# Altium schematic symbol library ToradexMainBoard-V0I1.SCHLIB: 303 symbols (part 6 of 14)
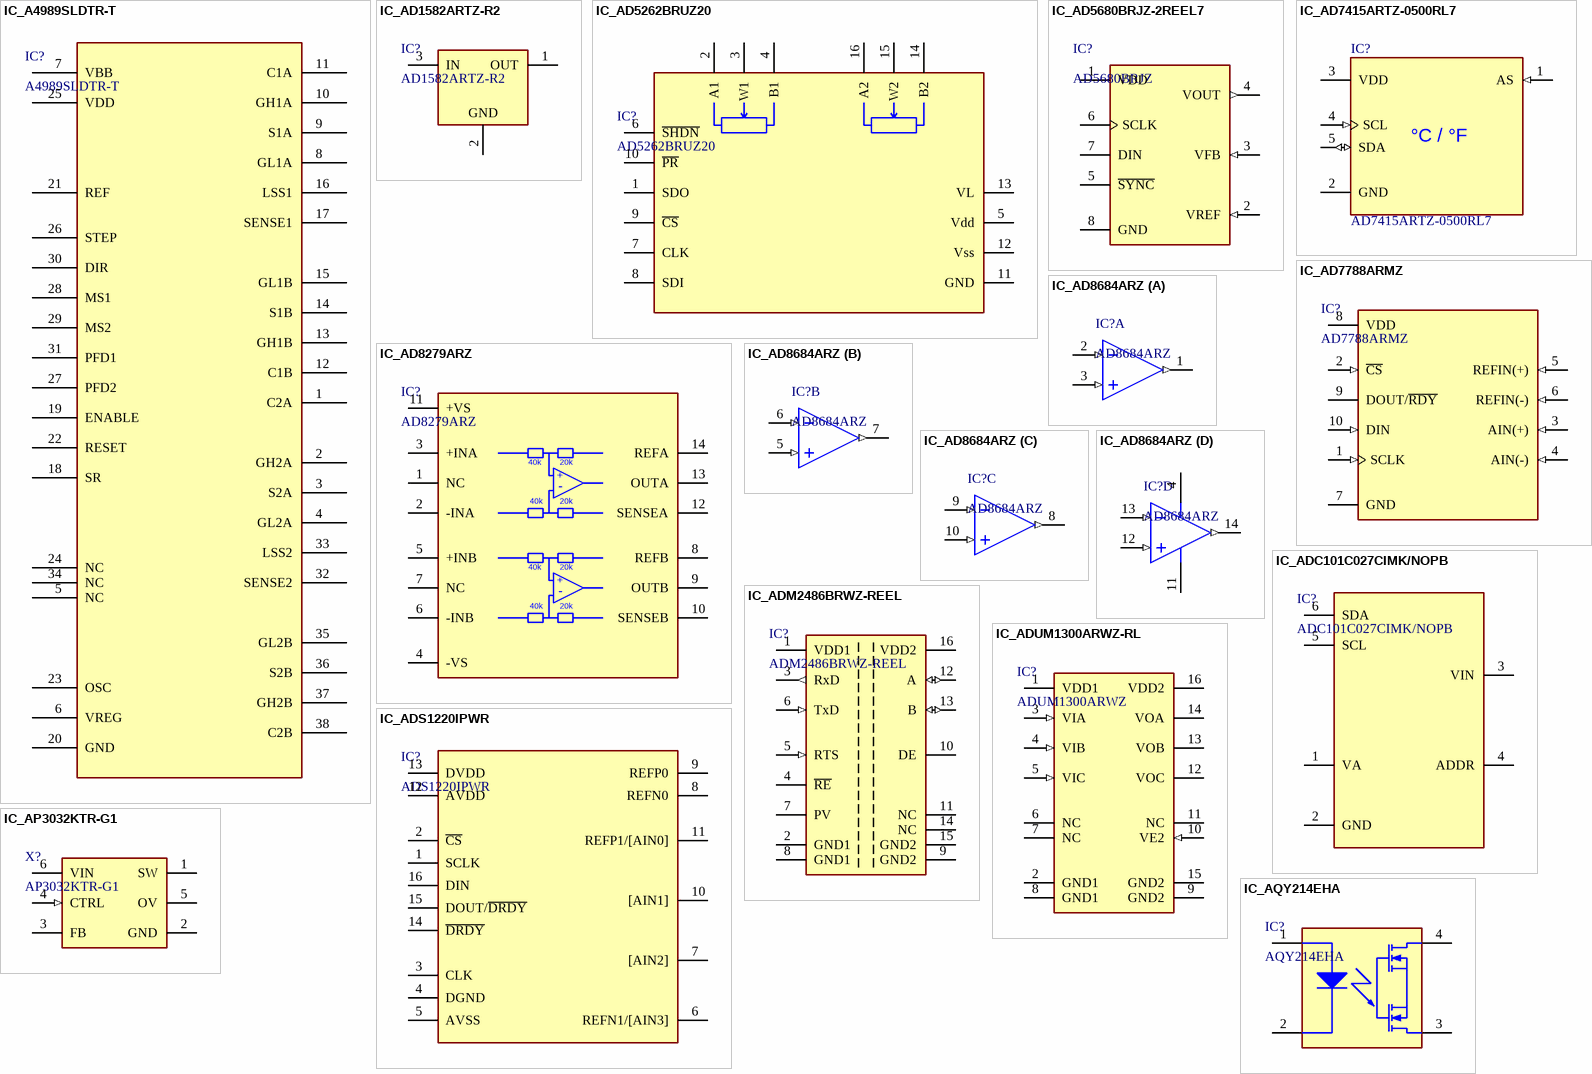
[diagram p20: symbols IC_A4989SLDTR-T to IC_AQY214EHA]

## IC_AD8279ARZ
designator IC?, comment AD8279ARZ
DIFFERENTIAL AMPLIFIER, 1MHZ, 1.4V/ uS, SOIC-14; No. of Amplifiers:2; Input Offset Voltage:500 V; Gain dB Max:2dB; Bandwidth:1MHz; Amplifier Case Style:SOIC; No. of Pins:14; Supply Voltage Range:2V to 36V; Slew Rate:1.4V/ s ;RoHS Compliant: Yes; Manufacturer: Analog Devices; Min Supply Voltage: 2V; Max Dual Supply Voltage: 18V; Number of Channels: 2; Common Mode Rejection Ratio: 80dB; Slew Rate: 1.4V/µs; Input Offset Voltage (Vos): 50uV; Operating Supply Current: 200uA; Output Current per Channel: 15mA; Input Resistance: 120kR; Max Power Dissipation: 500uW; Settling Time: 9us; Max Supply Current: 400uA; Supplier 1: Mouser; Manufacturer Part Number: AD8279ARZ; RoHS: Yes; Category: Amplifiers - Op Amps, Buffer, Instrumentation; Stock 1: 431; Mount: Surface Mount; Case/Package: SOIC; Number of Pins: 14; Contact Plating: Tin,Matte; Min Operating Temperature: -40°C; Max Operating Temperature: 85°C; Max Supply Voltage: 36V; Min Dual Supply Voltage: 2V; Packaging: Rail/Tube; Package Quantity: 56; Number of Circuits: 2; Gain Bandwidth Product: 1MHz; Number of Elements: 2; Series: -; Amplifier Type: DIFFERENTIAL; Bandwidth: 1MHz; Number of Amplifiers: 2; Length: 8.75mm; Width: 4mm; Height: 1.5mm; Lead Free: Contains Lead; RoHS Compliant: Yes; REACH SVHC: No SVHC; ComponentLink1URL: https://datasheet.ciiva.com/23589/1610844-23589650.pdf?src-supplier=Newark; ComponentLink1Description: https://datasheet.ciiva.com/23589/1610844-23589650.pdf?src-supplier=Newark; ComponentLink2URL: https://datasheet.ciiva.com/1485/608894-1485572.pdf?src-supplier=Element14; ComponentLink2Description: https://datasheet.ciiva.com/1485/608894-1485572.pdf?src-supplier=Element14; ComponentLink3URL: https://datasheet.ciiva.com/26855/ad8279arz-26855180.pdf?src-supplier=IIIC; ComponentLink3Description: https://datasheet.ciiva.com/26855/ad8279arz-26855180.pdf?src-supplier=IIIC; ComponentLink4URL: https://datasheet.ciiva.com/2977/ad8278-8279-2977138.pdf?src-supplier=Avnet; ComponentLink4Description: https://datasheet.ciiva.com/2977/ad8278-8279-2977138.pdf?src-supplier=Avnet; ComponentLink5URL: https://datasheet.ciiva.com/1492/608894-1492916.pdf?src-supplier=Farnell; ComponentLink5Description: https://datasheet.ciiva.com/1492/608894-1492916.pdf?src-supplier=Farnell; ComponentLink6URL: https://datasheet.ciiva.com/1135/1789993-1135287.pdf?src-supplier=Element14; ComponentLink6Description: https://datasheet.ciiva.com/1135/1789993-1135287.pdf?src-supplier=Element14; ComponentLink7URL: https://datasheet.ciiva.com/1794/ad8278-8279-1794669.pdf?src-supplier=Digi-Key; ComponentLink7Description: https://datasheet.ciiva.com/1794/ad8278-8279-1794669.pdf?src-supplier=Digi-Key; ComponentLink8URL: https://datasheet.ciiva.com/48705/001249126-da-01-en-ic-amp-diff-lp-ad8279arz-soic-14-adi-48705973.pdf?src-supplier=Conrad; ComponentLink8Description: https://datasheet.ciiva.com/48705/001249126-da-01-en-ic-amp-diff-lp-ad8279arz-soic-14-adi-48705973.pdf?src-supplier=Conrad; Supplier Part Number 1: 584-AD8279ARZ
footprint AD8279_SOIC14 (SOIC, 14-Leads, Body 8.75x4mm, Pitch 1.27mm, IPC Low Density)
pins: 1 NC "Positive Terminal of Voltage-Doubler Charge-Pump Capacitor", 2 -INA "+5.5 V Generated by the Charge Pump", 3 +INA "Negative Terminal of Voltage-Doubler Charge-Pump Capacitor", 4 -VS "Positive Terminal of Inverting Charge-Pump Capacitor", 5 +INB "Negative Terminal of Inverting Charge-Pump Capacitor", 6 -INB "-5.5 V Generated by the Charge Pump", 7 NC "RS-232 Transmitter Outputs", 8 REFB "RS-232 Receiver Inputs", 9 OUTB "TTL/CMOS Receiver Outputs", 10 SENSEB "TTL/CMOS Transmitter Inputs", 11 +VS "TTL/CMOS Transmitter Inputs", 12 SENSEA "TTL/CMOS Receiver Outputs", 13 OUTA "RS-232 Receiver Inputs", 14 REFA "RS-232 Transmitter Outputs"
text: 40k; 20k; +

## IC_AD8684ARZ
designator IC?, comment AD8684ARZ
ANALOG DEVICES         AD8684ARZ            Operational Amplifier, QUAD, 3.5 MHz, 4 Amplifier, 9 V/s,  4.5V to  18V, SOIC, 14 Pins; Generic Part Number: AD8684; V Span Max: 36V; Small Signal Bandwidth: 3.5MHz; Input Offset Voltage: 350uV; Iq/Amp: 210uA; Input Bias Current: 6pA; Slew Rate: 9V/us; V Span Min: 9V; Amplifiers Per Package: 4; Voltage Gain: 86.02dB; Common Mode Rejection Ratio: 90dB; Input Offset Voltage (Vos): 1mV; Operating Supply Current: 1mA; Output Current per Channel: 12mA; Input Voltage Noise Density: 36nV/sqrt Hz; Power Supply Rejection Ratio (PSRR): 114dB; Quiescent Current: 250uA; Settling Time: 1.6us; ComponentLink2URL: http://www.analog.com/static/imported-files/data_sheets/AD8682_AD8684.pdf; Mounting Technology: Surface Mount; ComponentLink2Description: Datasheet; ComponentLink1Description: Manufacturer URL; PackageReference: R-14; PartNumber: AD8684ARZ; PackageDescription: 14-Pin Standard Small Outline Package, Body 8.65 x 3.9 mm, Pitch 1.27 mm; DatasheetVersion: Rev. B; PackageVersion: 060606-A; ComponentLink1URL: http://www.analog.com/en/index.html; Manufacturer: Analog Devices; ComponentLink3Description: Package Specification; ComponentLink3URL: http://www.analog.com/static/imported-files/packages/PKG_PDF/SOIC_Narrow%20(R)/R_14.pdf; Code_JEDEC: MS-012-AB; Supplier 1: Mouser; Manufacturer Part Number: AD8684ARZ; RoHS: Yes; Category: Amplifiers - Op Amps, Buffer, Instrumentation; Stock 1: 137; Pricing 1: 1=6,56000, 10=5,93000, 50=5,65000, 100=4,90000, 1000=3,89000, 10000=3,89000, 1=5,56000, 10=5,02000, 25=4,79000, 100=4,15000, 250=3,96000, 500=3,62000, 1000=3,29000 (USD); Case/Package: R; Number of Pins: 14; Contact Plating: Tin,Matte; Min Operating Temperature: -40°C; Max Operating Temperature: 85°C; Packaging: Rail/Tube; Max Supply Voltage: 36V; Min Supply Voltage: 9V; Unity Gain Bandwidth Product: 3.5MHz; Min Dual Supply Voltage: 4.5V; Max Dual Supply Voltage: 18V; Package Quantity: 56; Number of Circuits: 4; Gain Bandwidth Product: 3.5MHz; Number of Channels: 4; Number of Amplifiers: 4; Number of Elements: 4; Series: -; Technology: JFET; Dual Supply Voltage: 9V; Bandwidth: 3.5MHz; Length: 8.75mm; Width: 4mm; Height: 1.5mm; Lead Free: Contains Lead; RoHS Compliant: Yes; REACH SVHC: No SVHC; ComponentLink4URL: https://datasheet.ciiva.com/23654/ad8682-8684-23654329.pdf?src-supplier=Newark; ComponentLink4Description: https://datasheet.ciiva.com/23654/ad8682-8684-23654329.pdf?src-supplier=Newark; ComponentLink5URL: https://datasheet.ciiva.com/1809/ad8682-ad8684-1809660.pdf?src-supplier=Digi-Key; ComponentLink5Description: https://datasheet.ciiva.com/1809/ad8682-ad8684-1809660.pdf?src-supplier=Digi-Key; ComponentLink6URL: https://datasheet.ciiva.com/1487/1610681-1487325.pdf?src-supplier=Element14; ComponentLink6Description: https://datasheet.ciiva.com/1487/1610681-1487325.pdf?src-supplier=Element14; ComponentLink7URL: https://datasheet.ciiva.com/11712/ad8682-ad8684-11712062.pdf?src-supplier=Avnet; ComponentLink7Description: https://datasheet.ciiva.com/11712/ad8682-ad8684-11712062.pdf?src-supplier=Avnet; ComponentLink8URL: https://datasheet.ciiva.com/17569/ad8682-ad8684-17569343.pdf?src-supplier=Avnet+Europe; ComponentLink8Description: https://datasheet.ciiva.com/17569/ad8682-ad8684-17569343.pdf?src-supplier=Avnet+Europe; Supplier Part Number 1: 584-AD8684ARZ
footprint AD8684ARZ_SOIC14 (SOIC, 14-Leads, Body 8.75x4mm, Pitch 1.27mm, IPC Low Density)
part A pins: 1 OUT A (out), 2 -IN A (in), 3 +IN A (in)
part B pins: 5 +IN B (in), 6 -IN B (in), 7 OUT B (out)
part C pins: 8 OUT C (out), 9 -IN C (in), 10 +IN C (in)
part D pins: 4 OUT D, 11 OUT D, 12 +IN D (in), 13 -IN D (in), 14 OUT D (out)

## IC_ADC101C027CIMK/NOPB
designator IC?, comment ADC101C027CIMK/NOPB
Single ADC SAR 188.9ksps 10-bit Serial 6-Pin TSOT-23 T/R; Manufacturer: TI National Semiconductor; Sampling Rate: 188.9KS/s; Resolution: 10b; Polarity: Unipolar; Number of Analog Inputs: 1; Interface: I2C; Operating Supply Voltage: 5V; Max Supply Voltage: 5.5V; Min Supply Voltage: 2.7V; Max Power Dissipation: 5.8mW; Number of Bits: 10; Integral Nonlinearity (INL): 0.7LSB; Signal to Noise Ratio (SNR): 61.8dB; Nominal Supply Current: 740uA; Full Scale Error: 1LSB; Supplier 1: Mouser; Manufacturer Part Number: ADC101C027CIMK/NOPB; RoHS: Yes; Category: Analog to Digital Converters (ADCs); Stock 1: 1689; Mount: Surface Mount; Case/Package: TSOT; Number of Pins: 6; Contact Plating: Tin; Min Operating Temperature: -40°C; Max Operating Temperature: 105°C; Packaging: Tape and Reel; Package Quantity: 1000; Number of Channels: 1; Number of Inputs: 1; Number of A/D Converters: 1; Number of Converters: 1; Number of Elements: 1; Supply Type: Single; Conversion Rate: 188.9KS/s; Differential Nonlinearity: 0.7LSB; Length: 2.97mm; Width: 1.65mm; Height: 0.87mm; Radiation Hardening: No; REACH SVHC: No SVHC; Lead Free: Lead Free; ComponentLink1URL: https://datasheet.ciiva.com/15147/getdatasheetpartid-158992-15147832.pdf?src-supplier=Verical; ComponentLink1Description: https://datasheet.ciiva.com/15147/getdatasheetpartid-158992-15147832.pdf?src-supplier=Verical; ComponentLink2URL: https://datasheet.ciiva.com/41460/001186638-da-01-en-ic-adc-adc101c027cimk-nopb-tsot-23-6-tid-41460910.pdf?src-supplier=Conrad; ComponentLink2Description: https://datasheet.ciiva.com/41460/001186638-da-01-en-ic-adc-adc101c027cimk-nopb-tsot-23-6-tid-41460910.pdf?src-supplier=Conrad; ComponentLink3URL: https://datasheet.ciiva.com/1501/91285-1501814.pdf?src-supplier=Farnell; ComponentLink3Description: https://datasheet.ciiva.com/1501/91285-1501814.pdf?src-supplier=Farnell; ComponentLink4URL: https://datasheet.ciiva.com/7988/1853638-7988909.pdf?src-supplier=Element14; ComponentLink4Description: https://datasheet.ciiva.com/7988/1853638-7988909.pdf?src-supplier=Element14; ComponentLink5URL: https://datasheet.ciiva.com/14259/adc101c027-14259487.pdf?src-supplier=Avnet; ComponentLink5Description: https://datasheet.ciiva.com/14259/adc101c027-14259487.pdf?src-supplier=Avnet; Supplier Part Number 1: 926-AD101C027CIMKNPB
footprint ADC101C027_SOT23
pins: 1 VA (power) "Power Supply Input: 2.7V to 26.4V", 2 GND (power) "Power Supply Input: 2.7V to 26.4V", 3 VIN (power) "Power Supply Input: 2.7V to 26.4V", 4 ADDR (power) "Power Supply Input: 2.7V to 26.4V", 5 SCL (power) "Power Supply Input: 2.7V to 26.4V", 6 SDA (power) "Power Supply Input: 2.7V to 26.4V"

## IC_ADM2486BRWZ-REEL
designator IC?, comment ADM2486BRWZ-REEL
Single Transmitter/Receiver RS-485 16-Pin SOIC W T/R; Manufacturer: Analog Devices; Number of Transmitters: 1; Logic Function: Transceiver; Number of Channels: 3; Data Rate: 20Mbps; Propagation Delay: 55ns; Max Supply Voltage: 5.5V; Min Supply Voltage: 2.7V; Nominal Supply Current: 3mA; Channel Type: Bidirectional; Isolated Power: No; Pulse Width Distortion (PWD): 5ns; Isolation Voltage: 2.5kV; Operating Supply Voltage: 5V; Simplex/Duplex: Half Duplex; Supplier 1: Mouser; Manufacturer Part Number: ADM2486BRWZ-REEL; RoHS: Yes; Category: Interface ICs; Mount: Surface Mount; Case/Package: SOIC; Number of Pins: 16; Contact Plating: Tin,Matte; Min Operating Temperature: -40°C; Max Operating Temperature: 85°C; Number of Receivers: 1; Packaging: Tape and Reel; Package Quantity: 1000; Operating Supply Current: 3mA; Number of Transceivers: 1; ESD Protection: No; Max Output Current: 3mA; Series: iCoupler®; Supply Current: 3mA; Lead Free: Contains Lead; RoHS Compliant: Yes; ComponentLink1URL: https://datasheet.ciiva.com/26832/adm2486brwz-reel-26832199.pdf?src-supplier=IIIC; ComponentLink1Description: https://datasheet.ciiva.com/26832/adm2486brwz-reel-26832199.pdf?src-supplier=IIIC; ComponentLink2URL: https://datasheet.ciiva.com/16641/adm2486-16641103.pdf?src-supplier=Avnet+Europe; ComponentLink2Description: https://datasheet.ciiva.com/16641/adm2486-16641103.pdf?src-supplier=Avnet+Europe; ComponentLink3URL: https://datasheet.ciiva.com/11301/adm2486-11301657.pdf?src-supplier=Avnet; ComponentLink3Description: https://datasheet.ciiva.com/11301/adm2486-11301657.pdf?src-supplier=Avnet; Supplier Part Number 1: 584-ADM2486BRWZ-R
footprint ADM2486_SOIC16W (SOIC, 16-Leads, Body 10.3x7.5mm, Pitch 1.27mm, IPC Low Density)
pins: 1 VDD1 (power) "Supply Voltage for Isolator Side 1.", 2 GND1 (power) "Ground 1. Ground reference for Isolator Side 1.", 3 RxD (out) "Logic Input A.", 4 ~{RE} "Logic Input B.", 5 RTS (in) "Logic Input C.", 6 TxD (in) "No Connect.", 7 PV "No Connect.", 8 GND1 (power) "Ground 1. Ground reference for Isolator Side 1.", 9 GND2 (power) "Ground 2. Ground reference for Isolator Side 2.", 10 DE "Output Enable 2. Active high logic input. VOA, VOB, and VOC outputs are enabled when VE2 is high or disconnected. VOA, VOB, and VOC outputs are disabled when VE2 is low. In noisy environments, connecting VE2 to an external (See Datasheet)", 11 NC "No Connect.", 12 A (io) "Logic Output C.", 13 B (io) "Logic Output B.", 14 NC (hiz) "Logic Output A.", 15 GND2 (power) "Ground 2. Ground reference for Isolator Side 2.", 16 VDD2 (power) "Supply Voltage for Isolator Side 2."

## IC_ADS1220IPWR
designator IC?, comment ADS1220IPWR
Single ADC Delta-Sigma 2ksps 24-bit Serial (5-Wire, 4-Wire, 3-Wire, SPI) 16-Pin TSSOP T/R; Manufacturer: Texas Instruments; Max Power Dissipation: 1.4mW; Number of Channels: 1; Max Supply Voltage: 5.5V; Min Supply Voltage: 2.3V; Number of Inputs: 4; Min Dual Supply Voltage: 2.75V; Power Dissipation: 2.1mW; Number of Bits: 24; Sampling Rate: 2KS/s; Resolution: 24b; Polarity: Bipolar,Unipolar; Supply Type: Dual,Analog,Digital; Operating Supply Voltage: 3.3V; Supplier 1: Digi-Key; Manufacturer Part Number: ADS1220IPWR; RoHS: Yes; Category: Analog to Digital Converters (ADCs); Stock 1: 1369; Pricing 1: 1=8,27000, 10=7,47300, 25=7,12600, 100=5,90920, 250=5,38780, 500=5,04020, 1000=4,51880 (USD); Mount: Surface Mount; Case/Package: TSSOP; Number of Pins: 16; Contact Plating: Gold; Min Operating Temperature: -40°C; Max Operating Temperature: 125°C; Packaging: Tape and Reel; Interface: SPI; Package Quantity: 2500; Max Dual Supply Voltage: 2.3V; Number of A/D Converters: 1; Number of Elements: 1; Number of Converters: 1; Number of Analog Inputs: 4; Radiation Hardening: No; Lead Free: Lead Free; ComponentLink1URL: https://datasheet.ciiva.com/29897/ads1220-29897475.pdf?src-supplier=Avnet; ComponentLink1Description: https://datasheet.ciiva.com/29897/ads1220-29897475.pdf?src-supplier=Avnet; ComponentLink2URL: https://datasheet.ciiva.com/24012/sbas501a-267197-24012885.pdf?src-supplier=Mouser; ComponentLink2Description: https://datasheet.ciiva.com/24012/sbas501a-267197-24012885.pdf?src-supplier=Mouser; ComponentLink3URL: https://datasheet.ciiva.com/26933/getdatasheetpartid-780540-26933509.pdf?src-supplier=Verical; ComponentLink3Description: https://datasheet.ciiva.com/26933/getdatasheetpartid-780540-26933509.pdf?src-supplier=Verical; Supplier Part Number 1: 296-39851-1-ND
footprint ADS1220-TSSOP16 (TSSOP16)
pins: 1 SCLK, 2 ~{CS}, 3 CLK, 4 DGND, 5 AVSS, 6 REFN1/[AIN3], 7 [AIN2], 8 REFN0, 9 REFP0, 10 [AIN1], 11 REFP1/[AIN0], 12 AVDD, 13 DVDD, 14 ~{DRDY}, 15 DOUT/~{DRDY}, 16 DIN

## IC_ADUM1300ARWZ-RL
designator IC?, comment ADUM1300ARWZ
IC,Digital Coupler,HYBRID,SOP,16PIN,PLASTIC; Manufacturer: Analog Devices; Manufacturer Part Number: ADUM1300ARWZ-RL; Propagation Delay: 100ns; Min Supply Voltage: 2.7V; Max Supply Voltage: 5.5V; Nominal Supply Current: 8.2mA; Operating Supply Voltage: 5V; Number of Channels: 3; Rise Time: 2.5ns; Data Rate: 90Mbps; Channel Type: Unidirectional; Max Input Current: 2.5mA; Output Current: 30mA; Isolated Power: No; Pulse Width Distortion (PWD): 40ns; Supplier 1: Mouser; RoHS: Yes; Category: Interface ICs; Stock 1: 3064; Case/Package: SOIC; Number of Pins: 16; Min Operating Temperature: -40°C; Max Operating Temperature: 125°C; Packaging: Tape and Reel; Package Quantity: 1000; Number of Input Lines: 3; Operating Supply Current: 8.2mA; Turn-On Delay Time: 100ns; Type: General Purpose; Length: 10.5mm; Width: 7.6mm; Depth: 2.65mm; Lead Free: Contains Lead; ComponentLink1URL: https://datasheet.ciiva.com/25620/0900766b810adbfe-25620793.pdf?src-supplier=RSComponents; ComponentLink1Description: https://datasheet.ciiva.com/25620/0900766b810adbfe-25620793.pdf?src-supplier=RSComponents; ComponentLink2URL: https://datasheet.ciiva.com/26911/adum1300arwz-rl-26911337.pdf?src-supplier=IIIC; ComponentLink2Description: https://datasheet.ciiva.com/26911/adum1300arwz-rl-26911337.pdf?src-supplier=IIIC; ComponentLink3URL: https://datasheet.ciiva.com/34302/1805151-34302757.pdf?src-supplier=Jameco; ComponentLink3Description: https://datasheet.ciiva.com/34302/1805151-34302757.pdf?src-supplier=Jameco; ComponentLink4URL: https://datasheet.ciiva.com/2081/adum1300-1301-2081801.pdf?src-supplier=Digi-Key; ComponentLink4Description: https://datasheet.ciiva.com/2081/adum1300-1301-2081801.pdf?src-supplier=Digi-Key; ComponentLink5URL: https://datasheet.ciiva.com/2081/adum1300-1301-2081802.pdf?src-supplier=Digi-Key; ComponentLink5Description: https://datasheet.ciiva.com/2081/adum1300-1301-2081802.pdf?src-supplier=Digi-Key; ComponentLink6URL: https://datasheet.ciiva.com/2081/adum1300-1301-2081803.pdf?src-supplier=Digi-Key; ComponentLink6Description: https://datasheet.ciiva.com/2081/adum1300-1301-2081803.pdf?src-supplier=Digi-Key; ComponentLink7URL: https://datasheet.ciiva.com/8085/adum1300-1301-8085039.pdf?src-supplier=Avnet; ComponentLink7Description: https://datasheet.ciiva.com/8085/adum1300-1301-8085039.pdf?src-supplier=Avnet; Supplier Part Number 1: 584-ADUM1300ARWZ-R
footprint ADUM1300_SOIC16W (SOIC, 16-Leads, Body 10.3x7.5mm, Pitch 1.27mm, IPC Low Density)
pins: 1 VDD1 (power) "Supply Voltage for Isolator Side 1.", 2 GND1 (power) "Ground 1. Ground reference for Isolator Side 1.", 3 VIA (in) "Logic Input A.", 4 VIB (in) "Logic Input B.", 5 VIC (in) "Logic Input C.", 6 NC "No Connect.", 7 NC "No Connect.", 8 GND1 (power) "Ground 1. Ground reference for Isolator Side 1.", 9 GND2 (power) "Ground 2. Ground reference for Isolator Side 2.", 10 VE2 (in) "Output Enable 2. Active high logic input. VOA, VOB, and VOC outputs are enabled when VE2 is high or disconnected. VOA, VOB, and VOC outputs are disabled when VE2 is low. In noisy environments, connecting VE2 to an external (See Datasheet)", 11 NC "No Connect.", 12 VOC (hiz) "Logic Output C.", 13 VOB (hiz) "Logic Output B.", 14 VOA (hiz) "Logic Output A.", 15 GND2 (power) "Ground 2. Ground reference for Isolator Side 2.", 16 VDD2 (power) "Supply Voltage for Isolator Side 2."

## IC_AP3032KTR-G1
designator X?, comment AP3032KTR-G1
AP3032 Series 9 V 1.3 MHz Surface Mount White LED Step-Up Converter - SOT-23-6; Manufacturer: Diodes; Number of Outputs: 1; Frequency: 1MHz; Max Supply Voltage: 9V; Output Current per Channel: 1.4A; Min Input Voltage: 2.7V; Max Output Voltage: 38V; Switching Frequency: 750kHz; Topology: Boost; Dimming: PWM; Supplier 1: Farnell; Manufacturer Part Number: AP3032KTR-G1; RoHS: Yes; Category: LED Drivers; Pricing 1: 5=0,64300, 10=0,43600, 100=0,22800, 500=0,18400 (EUR); Mount: Surface Mount; Case/Package: SOT-23-6; Number of Pins: 6; Weight: 0.000529oz; Min Operating Temperature: -40°C; Max Operating Temperature: 85°C; Packaging: Tape and Reel; Package Quantity: 3000; Max Input Voltage: 9V; Number of Channels: 1; Lead Free: Lead Free; ComponentLink1URL: https://datasheet.ciiva.com/29602/ap3032-29602682.pdf?src-supplier=Digi-Key; ComponentLink1Description: https://datasheet.ciiva.com/29602/ap3032-29602682.pdf?src-supplier=Digi-Key; ComponentLink2URL: https://datasheet.ciiva.com/29603/ap3032-29603100.pdf?src-supplier=Digi-Key; ComponentLink2Description: https://datasheet.ciiva.com/29603/ap3032-29603100.pdf?src-supplier=Digi-Key; ComponentLink3URL: https://datasheet.ciiva.com/29603/ap3032-29603101.pdf?src-supplier=Digi-Key; ComponentLink3Description: https://datasheet.ciiva.com/29603/ap3032-29603101.pdf?src-supplier=Digi-Key; Supplier Part Number 1: 3482892
footprint IC_AP3032-SOT26-6
pins: 1 SW, 2 GND (power), 3 FB, 4 CTRL (in), 5 OV, 6 VIN (power)

## IC_AQY214EHA
designator IC?, comment AQY214EHA
RELAY OPTO SPST-NO 120MA 400V; Manufacturer: Panasonic; Max Input Current: 50mA; On-State Resistance: 35R; Throw Configuration: SPST; Input Type: DC; Isolation Voltage-Max: 5kV; Contact Resistance: 26R; Forward Current: 1.2mA; Rise Time: 500us; Supplier 1: Farnell; Manufacturer Part Number: AQY214EHA; RoHS: Yes; Category: Solid State Relays; Stock 1: 5; Pricing 1: 1=2,39000, 10=2,25000, 25=2,00000, 50=1,90000, 100=1,80000 (EUR); Case/Package: SMD/SMT; Number of Pins: 4; Min Operating Temperature: -40°C; Max Operating Temperature: 85°C; Max Output Current: 120mA; Max Output Voltage: 400V; Package Quantity: 100; Output Voltage: 400V; Packaging: Rail/Tube; Load Current: 120mA; Termination: Gull Wing; Input Current: 50mA; Relay Type: Relay; Series: PhotoMOS™ AQY; On-state Resistance-Max: 35R; Output Current: 120mA; Isolation Voltage: 5kV; Test Voltage: 5kV; Length: 6.4mm; Width: 4.78mm; Height: 2.9mm; Radiation Hardening: No; Lead Free: Lead Free; RoHS Compliant: Yes; REACH SVHC: No SVHC; ComponentLink1URL: https://datasheet.ciiva.com/24427/11ds-x615-en-aqy21eh-24427498.pdf?src-supplier=Onlinecomponents.com; ComponentLink1Description: https://datasheet.ciiva.com/24427/11ds-x615-en-aqy21eh-24427498.pdf?src-supplier=Onlinecomponents.com; ComponentLink2URL: https://datasheet.ciiva.com/48510/1159euen-1111-s-48510894.pdf?src-supplier=Distrelec; ComponentLink2Description: https://datasheet.ciiva.com/48510/1159euen-1111-s-48510894.pdf?src-supplier=Distrelec; Supplier Part Number 1: 2095724
footprint AQY214_SMD (DIP(SMT), 4-Leads, Body 6.4x4.78mm, Pitch 2.54mm)
pins: 1, 2, 3, 4

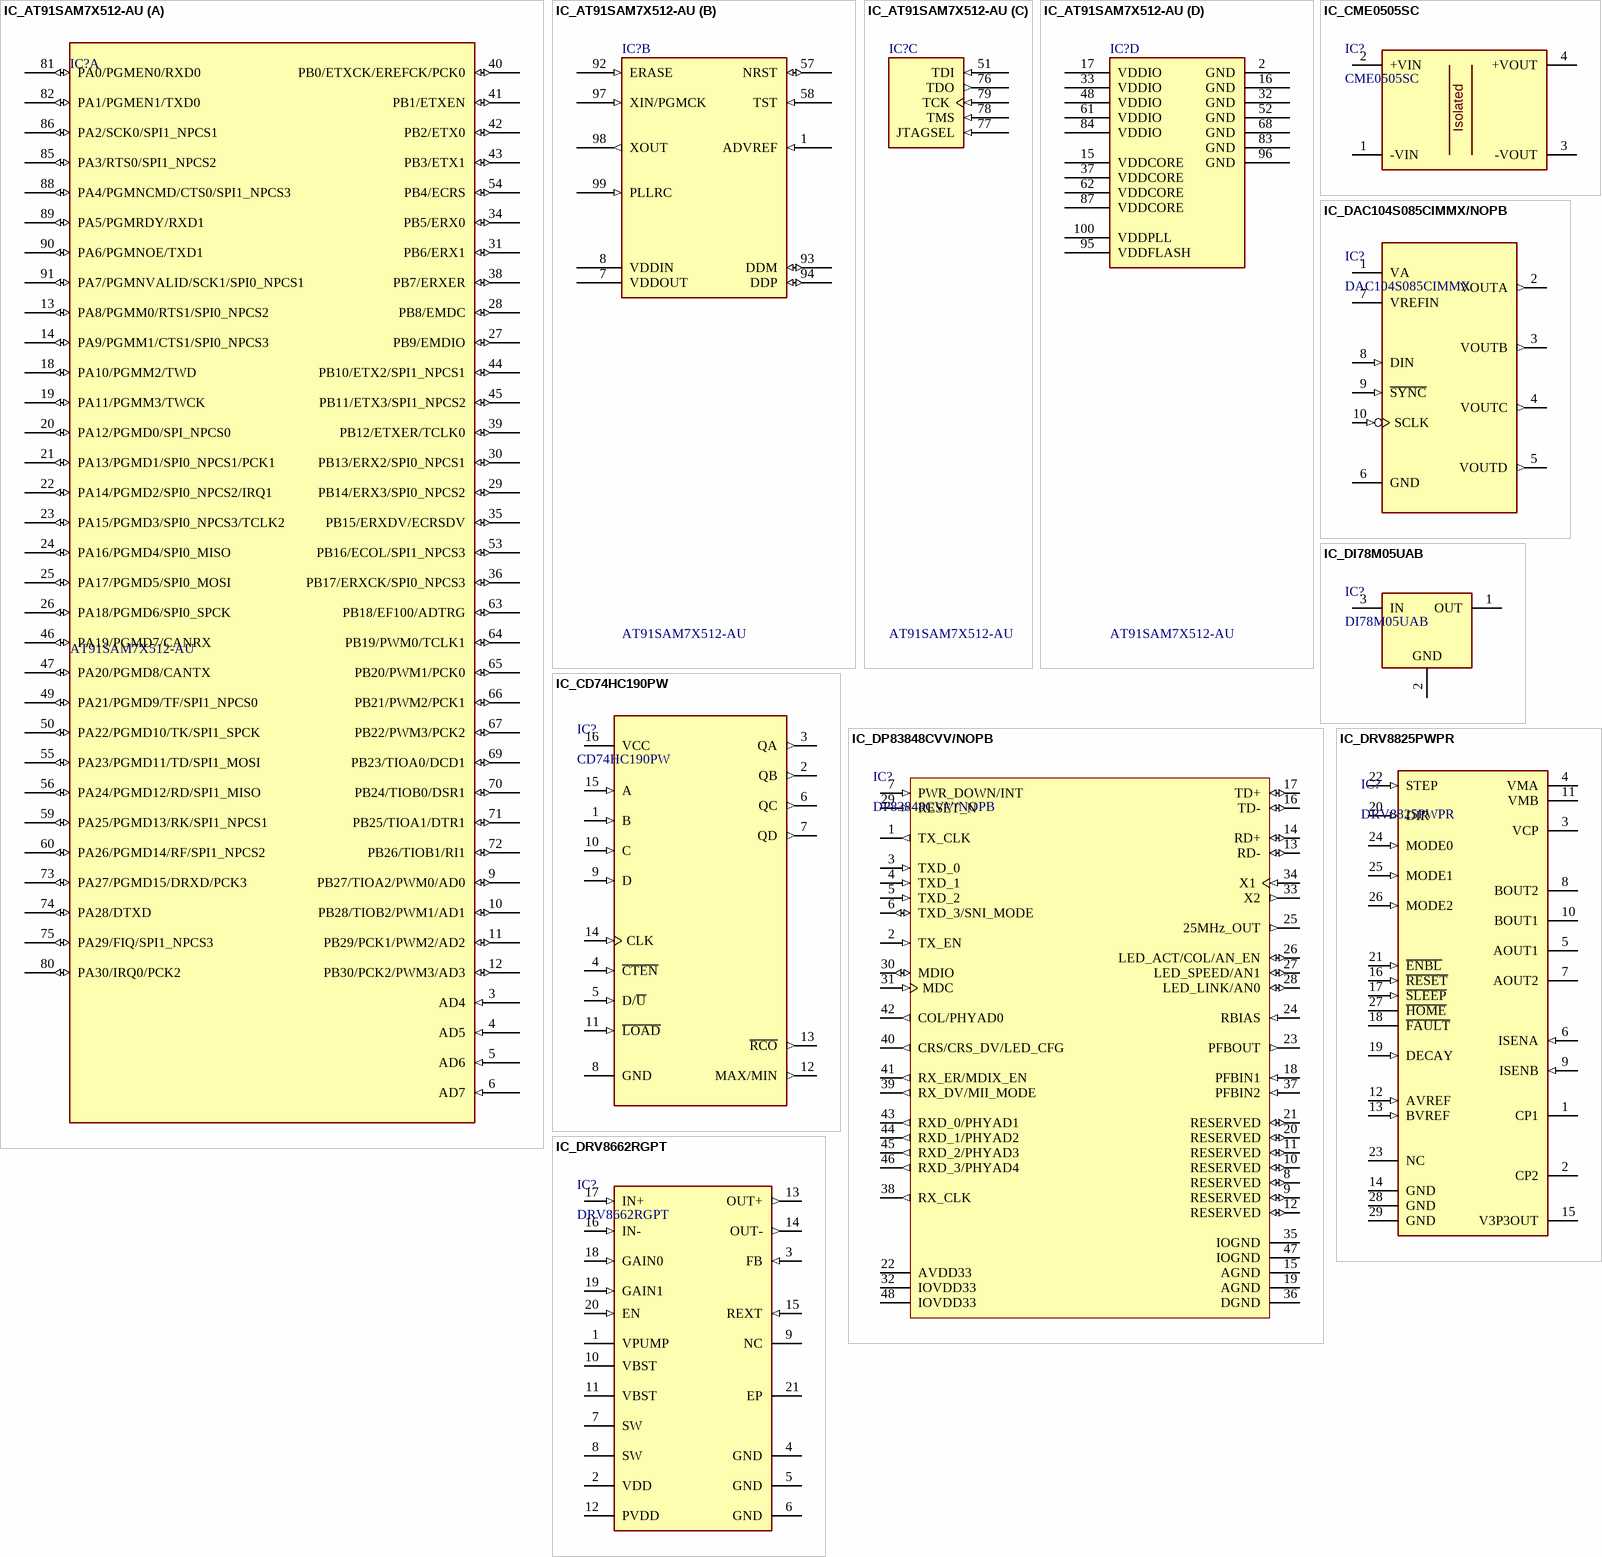
[diagram p9: symbols IC_AT91SAM7X512-AU to IC_DRV8825PWPR]

## IC_AT91SAM7X512-AU
designator IC?, comment AT91SAM7X512-AU
AT91 ARM Thumb-based 32-bit Microcontroller, 512KB Flash, 128KB SRAM, E-MAC, CAN, 100-Pin LQFP, Industrial Grade (-40°C to 85°C), Pb-Free; ComponentLink1URL: http://www.atmel.com/; ComponentLink2Description: AT91SAM7X Series Datasheet; ComponentLink1Description: Manufacturer URL; ComponentLink3URL: http://www.atmel.com/dyn/resources/prod_documents/6120s.pdf; ComponentLink3Description: AT91SAM7X Series Summary; ComponentLink2URL: http://www.atmel.com/dyn/resources/prod_documents/doc6120.pdf; PackageVersion: Apr-2006; PackageReference: LQFP100; DatasheetVersion: revH, Feb-2009; ComponentLink4Description: ARM7TDMI Reference Manual; PackageDescription: 100-Pin Thin Quad Flat Pack 0.5 mm Pitch; ComponentLink4URL: http://www.atmel.com/dyn/resources/prod_documents/DDI0029G_7TDMI_R3_trm.pdf; Code_JEDEC: MS-026-BED; Supplier 1: Mouser; Supplier Part Number 1: 556-AT91SAM7X512B-AU
footprint AT91SAM7X_LQFP100_L (Thin QFP, 100-Leads, Body 14x14mm, Pitch 0.5mm, IPC High Density)
part A pins: 3 AD4 (in), 4 AD5 (in), 5 AD6 (in), 6 AD7 (in), 9 PB27/TIOA2/PWM0/AD0 (io), 10 PB28/TIOB2/PWM1/AD1 (io), 11 PB29/PCK1/PWM2/AD2 (io), 12 PB30/PCK2/PWM3/AD3 (io), 13 PA8/PGMM0/RTS1/SPI0_NPCS2 (io), 14 PA9/PGMM1/CTS1/SPI0_NPCS3 (io), 18 PA10/PGMM2/TWD (io), 19 PA11/PGMM3/TWCK (io), 20 PA12/PGMD0/SPI_NPCS0 (io), 21 PA13/PGMD1/SPI0_NPCS1/PCK1 (io), 22 PA14/PGMD2/SPI0_NPCS2/IRQ1 (io), 23 PA15/PGMD3/SPI0_NPCS3/TCLK2 (io), 24 PA16/PGMD4/SPI0_MISO (io), 25 PA17/PGMD5/SPI0_MOSI (io), 26 PA18/PGMD6/SPI0_SPCK (io), 27 PB9/EMDIO (io), 28 PB8/EMDC (io), 29 PB14/ERX3/SPI0_NPCS2 (io), 30 PB13/ERX2/SPI0_NPCS1 (io), 31 PB6/ERX1 (io), 34 PB5/ERX0 (io), 35 PB15/ERXDV/ECRSDV (io), 36 PB17/ERXCK/SPI0_NPCS3 (io), 38 PB7/ERXER (io), 39 PB12/ETXER/TCLK0 (io), 40 PB0/ETXCK/EREFCK/PCK0 (io), 41 PB1/ETXEN (io), 42 PB2/ETX0 (io), 43 PB3/ETX1 (io), 44 PB10/ETX2/SPI1_NPCS1 (io), 45 PB11/ETX3/SPI1_NPCS2 (io), 46 PA19/PGMD7/CANRX (io), 47 PA20/PGMD8/CANTX (io), 49 PA21/PGMD9/TF/SPI1_NPCS0 (io), 50 PA22/PGMD10/TK/SPI1_SPCK (io), 53 PB16/ECOL/SPI1_NPCS3 (io), 54 PB4/ECRS (io), 55 PA23/PGMD11/TD/SPI1_MOSI (io), 56 PA24/PGMD12/RD/SPI1_MISO (io), 59 PA25/PGMD13/RK/SPI1_NPCS1 (io), 60 PA26/PGMD14/RF/SPI1_NPCS2 (io), 63 PB18/EF100/ADTRG (io), 64 PB19/PWM0/TCLK1 (io), 65 PB20/PWM1/PCK0 (io), 66 PB21/PWM2/PCK1 (io), 67 PB22/PWM3/PCK2 (io), 69 PB23/TIOA0/DCD1 (io), 70 PB24/TIOB0/DSR1 (io), 71 PB25/TIOA1/DTR1 (io), 72 PB26/TIOB1/RI1 (io), 73 PA27/PGMD15/DRXD/PCK3 (io), 74 PA28/DTXD (io), 75 PA29/FIQ/SPI1_NPCS3 (io), 80 PA30/IRQ0/PCK2 (io), 81 PA0/PGMEN0/RXD0 (io), 82 PA1/PGMEN1/TXD0 (io), 85 PA3/RTS0/SPI1_NPCS2 (io), 86 PA2/SCK0/SPI1_NPCS1 (io), 88 PA4/PGMNCMD/CTS0/SPI1_NPCS3 (io), 89 PA5/PGMRDY/RXD1 (io), 90 PA6/PGMNOE/TXD1 (io), 91 PA7/PGMNVALID/SCK1/SPI0_NPCS1 (io)
part B pins: 1 ADVREF (in), 7 VDDOUT (power), 8 VDDIN (power), 57 NRST (io), 58 TST (in), 92 ERASE (in), 93 DDM (io), 94 DDP (io), 97 XIN/PGMCK (in), 98 XOUT (out), 99 PLLRC (in)
part C pins: 51 TDI (in), 76 TDO (out), 77 JTAGSEL (in), 78 TMS (in), 79 TCK (in)
part D pins: 2 GND (power), 15 VDDCORE (power), 16 GND (power), 17 VDDIO (power), 32 GND (power), 33 VDDIO (power), 37 VDDCORE (power), 48 VDDIO (power), 52 GND (power), 61 VDDIO (power), 62 VDDCORE (power), 68 GND (power), 83 GND (power), 84 VDDIO (power), 87 VDDCORE (power), 95 VDDFLASH (power), 96 GND (power), 100 VDDPLL (power)

## IC_CD74HC190PW
designator IC?, comment CD74HC190PW
LOGIC, BCD UP/DWN COUNTR PREST, 16SSOP; Manufacturer: Texas Instruments; Min Supply Voltage: 2V; Max Supply Voltage: 6V; Number of Elements: 1; Propagation Delay: 315ns; Direction: Bidirectional; Number of Bits: 4; Logic Function: Counter; Frequency: 35MHz; Sync/Async: Synchronous; Clock Edge Trigger Type: Positive Edge; Supplier 1: Mouser; Manufacturer Part Number: CD74HC190PW; RoHS: Yes; Category: Counters; Stock 1: 744; Mount: Surface Mount; Case/Package: TSSOP; Number of Pins: 16; Weight: 0.002183oz; Contact Plating: Gold; Min Operating Temperature: -55°C; Max Operating Temperature: 125°C; Packaging: Rail/Tube; Package Quantity: 90; Number of Bits per Element: 4; Termination: SMD/SMT; Max Frequency: 35MHz; Turn-On Delay Time: 315ns; Lead Free: Lead Free; REACH SVHC: No SVHC; ComponentLink1URL: https://datasheet.ciiva.com/1506/1762659-1506721.pdf?src-supplier=Element14; ComponentLink1Description: https://datasheet.ciiva.com/1506/1762659-1506721.pdf?src-supplier=Element14; ComponentLink2URL: https://datasheet.ciiva.com/14295/cd74hc191-14295532.pdf?src-supplier=Avnet; ComponentLink2Description: https://datasheet.ciiva.com/14295/cd74hc191-14295532.pdf?src-supplier=Avnet; Supplier Part Number 1: 595-CD74HC190PW
footprint CD74HC190PW_TSSOP16 (SOP, 16-Leads, Body 5.1x4.5mm, Pitch 0.65mm, IPC High Density)
pins: 1 B (in), 2 QB (out), 3 QA (out), 4 ~{CTEN} (in), 5 D/~{U} (in), 6 QC (out), 7 QD (out), 8 GND (power), 9 D (in), 10 C (in), 11 ~{LOAD} (in), 12 MAX/MIN (out), 13 ~{RCO} (out), 14 CLK (in), 15 A (in), 16 VCC (power)

## IC_CME0505SC
designator IC?, comment CME0505SC
DC-DC CONV, ISO POL, 1O/P, 0.75W, 5V; Manufacturer: Murata; Max Input Voltage: 5.5V; Max Power Dissipation: 750mW; Min Input Voltage: 4.5V; Max Output Current: 150mA; Isolation Voltage: 1kV; Number of Outputs: 1; Efficiency: 70%; Supplier 1: Farnell; Manufacturer Part Number: CME0505SC; RoHS: Yes; Category: Board Mount Modules; Stock 1: 87; Pricing 1: 1=4,66000, 10=3,86000, 25=3,46000, 150=3,19000, 250=2,98000 (EUR); Mount: Through Hole; Case/Package: SIP; Contact Plating: Tin,Matte; Weight: 0.048678oz; Min Operating Temperature: 45°C; Max Operating Temperature: 85°C; Packaging: Rail/Tube; Package Quantity: 35; Max Input Voltage (DC): 5.5V; Nominal Output Voltage: 5V; Voltage - Output 1: 5V; Voltage - Output 2: 5V; Output Current: 150mA; Nominal Input Voltage: 5V; Output Voltage: 5V; Output Power: 750mW; Min Input Voltage (DC): 4.5V; Max Output Power: 750mW; Current - Output 1: 150mA; Length: 0.45inch; Width: 0.24inch; Height: 0.39inch; Depth: 11.48mm; REACH SVHC: No SVHC; Lead Free: Lead Free; ComponentLink1URL: https://datasheet.ciiva.com/29378/kdc-cme-29378449.pdf?src-supplier=Digi-Key; ComponentLink1Description: https://datasheet.ciiva.com/29378/kdc-cme-29378449.pdf?src-supplier=Digi-Key; ComponentLink2URL: https://datasheet.ciiva.com/30029/kdc-cme-30029753.pdf?src-supplier=Avnet; ComponentLink2Description: https://datasheet.ciiva.com/30029/kdc-cme-30029753.pdf?src-supplier=Avnet; ComponentLink3URL: https://datasheet.ciiva.com/46416/1788378-46416087.pdf?src-supplier=Element14; ComponentLink3Description: https://datasheet.ciiva.com/46416/1788378-46416087.pdf?src-supplier=Element14; ComponentLink4URL: https://datasheet.ciiva.com/29801/kdc-cme-29801199.pdf?src-supplier=Digi-Key; ComponentLink4Description: https://datasheet.ciiva.com/29801/kdc-cme-29801199.pdf?src-supplier=Digi-Key; Supplier Part Number 1: 2400808
footprint CME0505SC_SIP (Relay, 6-Leads, Body 12.3x7.3mm, Pitch 2.54mm)
pins: 1 -VIN (power) "Positive Supply Voltage, 2.7 V to 5.5 V.", 2 +VIN (power) "Positive Supply Voltage, 2.7 V to 5.5 V.", 3 -VOUT (power) "Positive Supply Voltage, 2.7 V to 5.5 V.", 4 +VOUT (power) "Positive Supply Voltage, 2.7 V to 5.5 V."
text: Isolated

## IC_DAC104S085CIMMX/NOPB
designator IC?, comment DAC104S085CIMMX
DAC 10BIT MICROPWR QUAD 10-MSOP; Manufacturer: TI National Semiconductor; Manufacturer Part Number: DAC104S085CIMMX/NOPB; Settling Time: 6us; Resolution: 10b; Integral Nonlinearity (INL): 2LSB; Output Type: Voltage; Interface: SPI; Number of Bits: 10; Max Supply Voltage: 5.5V; Min Supply Voltage: 2.7V; Number of DAC Channels: 4; Power Consumption: 1.1mW; Polarity: Unipolar; Supplier 1: Mouser; RoHS: Yes; Category: Digital to Analog Converters (DACs); Mount: Surface Mount; Case/Package: VSSOP; Number of Pins: 10; Contact Plating: Tin,Matte; Min Operating Temperature: -40°C; Max Operating Temperature: 105°C; Package Quantity: 3500; Packaging: Tape and Reel; Number of Converters: 4; Number of Channels: 4; Radiation Hardening: No; Lead Free: Lead Free; ComponentLink1URL: https://datasheet.ciiva.com/26888/getdatasheetpartid-654953-26888720.pdf?src-supplier=Verical; ComponentLink1Description: https://datasheet.ciiva.com/26888/getdatasheetpartid-654953-26888720.pdf?src-supplier=Verical; ComponentLink2URL: https://datasheet.ciiva.com/14254/dac104s085-14254296.pdf?src-supplier=Avnet; ComponentLink2Description: https://datasheet.ciiva.com/14254/dac104s085-14254296.pdf?src-supplier=Avnet; ComponentLink3URL: https://datasheet.ciiva.com/6673/dac104s085-6673614.pdf?src-supplier=Digi-Key; ComponentLink3Description: https://datasheet.ciiva.com/6673/dac104s085-6673614.pdf?src-supplier=Digi-Key; Supplier Part Number 1: 926-D104S085CIMMXNPB
footprint DAC104S085_MSOP (TSSOP, 10-Leads, Body 3x3mm, Pitch 0.5mm, IPC High Density)
pins: 1 VA (power), 2 VOUTA (out), 3 VOUTB (out), 4 VOUTC (out), 5 VOUTD (out), 6 GND (power), 7 VREFIN (power), 8 DIN (in), 9 ~{SYNC} (in), 10 SCLK (in)

## IC_DI78M05UAB
designator IC?, comment DI78M05UAB
Voltage Regulator, SOT-89, 35V .. 4.800V, 5.200V .. 4.200mA; Manufacturer: Diotec; Supplier 1: Mouser; Manufacturer Part Number: DI78M05UAB; RoHS: Yes; Category: Voltage Regulators - Linear; Stock 1: 17209; Supplier Part Number 1: 637-DI78M05UAB
footprint DI78M05UAB_SOT89_M (SOT89, 3-Leads, Body 4.5x2.4 mm, Pitch 1.5mm, Lead Span 4.1mm, IPC Low Density)
pins: 1 OUT (power), 2 GND (power), 3 IN (power)

## IC_DP83848CVV/NOPB
designator IC?, comment DP83848CVV/NOPB
Commercial temperature, 10/100-Mbps Ethernet PHY transceiver with SNI interface & JTAG support 48-LQFP 0 to 70; Manufacturer: TI National Semiconductor; Data Rate: 100Mbps; Operating Supply Voltage: 3.3V; Number of Channels: 1; Max Supply Voltage: 3.6V; Min Supply Voltage: 3V; Nominal Supply Current: 92mA; Interface: Serial; Max Power Dissipation: 267mW; Cable Length: 137m; Supplier 1: Farnell; Manufacturer Part Number: DP83848CVV/NOPB; RoHS: Yes; Category: Interface ICs; Stock 1: 2432; Pricing 1: 1=4,87000, 10=3,93000, 25=3,72000, 50=3,39000, 100=3,05000, 250=2,75000, 500=2,65000 (EUR); Mount: Surface Mount; Case/Package: LQFP; Number of Pins: 48; Weight: 0.006409oz; Min Operating Temperature: 0°C; Max Operating Temperature: 70°C; Package Quantity: 250; Packaging: Tray; Number of Ports: 1; Termination: SMD/SMT; Number of Transceivers: 1; Max Supply Current: 92mA; Length: 7mm; Width: 7mm; Height: 1.4mm; Radiation Hardening: No; REACH SVHC: No SVHC; Lead Free: Lead Free; ComponentLink1URL: https://datasheet.ciiva.com/6635/dp83848c-6635968.pdf?src-supplier=Digi-Key; ComponentLink1Description: https://datasheet.ciiva.com/6635/dp83848c-6635968.pdf?src-supplier=Digi-Key; ComponentLink2URL: https://datasheet.ciiva.com/27054/1921661-27054787.pdf?src-supplier=Jameco; ComponentLink2Description: https://datasheet.ciiva.com/27054/1921661-27054787.pdf?src-supplier=Jameco; ComponentLink3URL: https://datasheet.ciiva.com/5799/90639-5799254.pdf?src-supplier=Farnell; ComponentLink3Description: https://datasheet.ciiva.com/5799/90639-5799254.pdf?src-supplier=Farnell; ComponentLink4URL: https://datasheet.ciiva.com/16471/dp83848c-16471221.pdf?src-supplier=Avnet+Asia; ComponentLink4Description: https://datasheet.ciiva.com/16471/dp83848c-16471221.pdf?src-supplier=Avnet+Asia; ComponentLink5URL: https://datasheet.ciiva.com/1141/1668041-1141980.pdf?src-supplier=Element14; ComponentLink5Description: https://datasheet.ciiva.com/1141/1668041-1141980.pdf?src-supplier=Element14; Supplier Part Number 1: 3123672
footprint DP83848-LQFP (QFP, 48-Leads, Body 7x7mm, Pitch 0.5mm, IPC Low Density)
pins: 1 TX_CLK (out), 2 TX_EN (in), 3 TXD_0 (in), 4 TXD_1 (in), 5 TXD_2 (in), 6 TXD_3/SNI_MODE (io), 7 PWR_DOWN/INT (in), 8 RESERVED (io), 9 RESERVED (io), 10 RESERVED (io), 11 RESERVED (io), 12 RESERVED (io), 13 RD- (io), 14 RD+ (io), 15 AGND (power), 16 TD- (io), 17 TD+ (io), 18 PFBIN1 (in), 19 AGND (power), 20 RESERVED (io), 21 RESERVED (io), 22 AVDD33 (power), 23 PFBOUT (out), 24 RBIAS (in), 25 25MHz_OUT (out), 26 LED_ACT/COL/AN_EN (io), 27 LED_SPEED/AN1 (io), 28 LED_LINK/AN0 (io), 29 RESET_N (in), 30 MDIO (io), 31 MDC (in), 32 IOVDD33 (power), 33 X2 (out), 34 X1 (in), 35 IOGND (power), 36 DGND (power), 37 PFBIN2 (in), 38 RX_CLK (out), 39 RX_DV/MII_MODE (out), 40 CRS/CRS_DV/LED_CFG (out), 41 RX_ER/MDIX_EN (out), 42 COL/PHYAD0 (out), 43 RXD_0/PHYAD1 (out), 44 RXD_1/PHYAD2 (out), 45 RXD_2/PHYAD3 (out), 46 RXD_3/PHYAD4 (out), 47 IOGND (power), 48 IOVDD33 (power)

## IC_DRV8662RGPT
designator IC?, comment DRV8662RGPT
TEXAS INSTRUMENTS - DRV8662RGPT - PIEZO HAPTIC DRIVER, 105V BOOST SWITCH, QFN-20; Min Supply Voltage: 3V; Max Supply Voltage: 5.5V; Nominal Supply Current: 5mA; Output Voltage: 100V; Min Input Voltage: 1.4V; Max Input Voltage: 750mV; Interface: PWM,Analog; Logic Function: AND GATE; Output Current: 75mA; Collector Emitter Voltage (VCEO): 5V; Supplier 1: Mouser; Manufacturer: Texas Instruments; Manufacturer Part Number: DRV8662RGPT; RoHS: Yes; Category: Amplifiers - Op Amps, Buffer, Instrumentation; Stock 1: 1199; Case/Package: QFN; Number of Pins: 20; Contact Plating: Gold; Min Operating Temperature: -40°C; Max Operating Temperature: 70°C; Packaging: Tape and Reel; Package Quantity: 250; Quiescent Current: 5mA; Supply Current: 5mA; Series: DRV8662; Length: 4.15mm; Width: 4.15mm; Height: 0.95mm; Radiation Hardening: No; REACH SVHC: No SVHC; Lead Free: Lead Free; RoHS Compliant: Yes; ComponentLink1URL: https://datasheet.ciiva.com/1176/drv8662-1176038.pdf?src-supplier=Newark; ComponentLink1Description: https://datasheet.ciiva.com/1176/drv8662-1176038.pdf?src-supplier=Newark; ComponentLink2URL: https://datasheet.ciiva.com/1958/drv8662-1958744.pdf?src-supplier=Digi-Key; ComponentLink2Description: https://datasheet.ciiva.com/1958/drv8662-1958744.pdf?src-supplier=Digi-Key; ComponentLink3URL: https://datasheet.ciiva.com/15132/getdatasheetpartid-522234-15132698.pdf?src-supplier=Verical; ComponentLink3Description: https://datasheet.ciiva.com/15132/getdatasheetpartid-522234-15132698.pdf?src-supplier=Verical; ComponentLink4URL: https://datasheet.ciiva.com/26166/drv8662-26166828.pdf?src-supplier=Avnet+Europe; ComponentLink4Description: https://datasheet.ciiva.com/26166/drv8662-26166828.pdf?src-supplier=Avnet+Europe; ComponentLink5URL: https://datasheet.ciiva.com/2965/drv8662-2965133.pdf?src-supplier=Avnet; ComponentLink5Description: https://datasheet.ciiva.com/2965/drv8662-2965133.pdf?src-supplier=Avnet; Supplier Part Number 1: 595-DRV8662RGPT
footprint IC_DRV8662RGPT-QFN (QFN, 20-Leads, Body 4x4mm, Pitch 0.5mm, Thermal Pad 2.7x2.7mm)
pins: 1 VPUMP (power) "Internal Charge-pump voltage", 2 VDD (power) "Power supply (connect to battery)", 3 FB (in) "Boost feedback", 4 GND (power) "Ground", 5 GND (power) "Ground", 6 GND (power) "Ground", 7 SW (power) "Internal boost switch pin", 8 SW (power) "Internal boost switch pin", 9 NC, 10 VBST (power) "Boost output voltage", 11 VBST (power) "Boost output voltage", 12 PVDD (power) "Amplifier supply voltage", 13 OUT+ (out) "Non-inverting output", 14 OUT- (out) "Inverting output", 15 REXT (in) "Resistor to ground, sets boost current limit", 16 IN- (in) "Inverting input", 17 IN+ (in) "Non-inverting input", 18 GAIN0 (in) "Gain programming pin - LSB", 19 GAIN1 (in) "Gain programming pin - MSB", 20 EN (in) "Chip enable", 21 EP (power)

## IC_DRV8825PWPR
designator IC?, comment DRV8825PWPR
Resistor Trimmer 10k Ohm 10% 1/4 Watt 11 Turn 1.5mm J-hook Surface Mount Embossed Tape and Reel; Manufacturer: Texas Instruments; Output Current: 2.5A; Max Supply Voltage: 45V; Min Supply Voltage: 8V; Logic Function: AND GATE; Resistance: 10kR; Temperature Coefficient: 100ppm/°C; Power Rating: 250mW; Number of Turns: 11; Voltage Rating (DC): 300V; Insulation Resistance: 100MR; Supplier 1: Mouser; Manufacturer Part Number: DRV8825PWPR; RoHS: Yes; Category: Motor Drivers; Mount: Surface Mount; Case/Package: HTSSOP; Number of Pins: 28; Min Operating Temperature: -40°C; Max Operating Temperature: 85°C; Type: Integrated Circuit (IC); Nominal Supply Current: 2.5A; Packaging: Tape and Reel; Package Quantity: 1; Supply Current: 2.5A; Series: DRV8825; Radiation Hardening: No; Lead Free: Lead Free; RoHS Compliant: Yes; ComponentLink1URL: https://datasheet.ciiva.com/1959/drv8825-1959820.pdf?src-supplier=Digi-Key; ComponentLink1Description: https://datasheet.ciiva.com/1959/drv8825-1959820.pdf?src-supplier=Digi-Key; ComponentLink2URL: https://datasheet.ciiva.com/1959/drv8825-1959819.pdf?src-supplier=Digi-Key; ComponentLink2Description: https://datasheet.ciiva.com/1959/drv8825-1959819.pdf?src-supplier=Digi-Key; ComponentLink3URL: https://datasheet.ciiva.com/1959/drv8825-1959821.pdf?src-supplier=Digi-Key; ComponentLink3Description: https://datasheet.ciiva.com/1959/drv8825-1959821.pdf?src-supplier=Digi-Key; ComponentLink4URL: https://datasheet.ciiva.com/3229/drv8825-3229031.pdf?src-supplier=Avnet; ComponentLink4Description: https://datasheet.ciiva.com/3229/drv8825-3229031.pdf?src-supplier=Avnet; ComponentLink5URL: https://datasheet.ciiva.com/26810/getdatasheetpartid-625248-26810663.pdf?src-supplier=Verical; ComponentLink5Description: https://datasheet.ciiva.com/26810/getdatasheetpartid-625248-26810663.pdf?src-supplier=Verical; Supplier Part Number 1: 595-DRV8825PWPR; Supplier 2: Farnell; Stock 2: 2000; Pricing 2: 500=2,33000, 2500=2,22000, 5000=2,18000 (EUR); Weight: 0.283g; Color: Natural; Contact Plating: Tin; Tolerance: 10%; Resistor Type: Cermet; Resistance Tolerance: 10%; Termination: J-Hook; Taper: Linear; Max Power Dissipation: 250mW; Technology: CERMET; Voltage Rating: 300V; Length: 4.8mm; Width: 4.8mm; Height: 3.71mm; Depth: 5mm; Military Standard: Not; Reach SVHC Compliant: Yes; ComponentLink6URL: https://datasheet.ciiva.com/34302/1155944-34302028.pdf?src-supplier=Jameco; ComponentLink6Description: https://datasheet.ciiva.com/34302/1155944-34302028.pdf?src-supplier=Jameco; ComponentLink7URL: https://datasheet.ciiva.com/11831/0900766b8002e254-11831879.pdf?src-supplier=Rs; ComponentLink7Description: https://datasheet.ciiva.com/11831/0900766b8002e254-11831879.pdf?src-supplier=Rs; ComponentLink8URL: https://datasheet.ciiva.com/3266/3224-3266141.pdf?src-supplier=Avnet; ComponentLink8Description: https://datasheet.ciiva.com/3266/3224-3266141.pdf?src-supplier=Avnet; ComponentLink9URL: https://datasheet.ciiva.com/15156/getdatasheetpartid-121253-15156604.pdf?src-supplier=Verical; ComponentLink9Description: https://datasheet.ciiva.com/15156/getdatasheetpartid-121253-15156604.pdf?src-supplier=Verical; ComponentLink10URL: https://datasheet.ciiva.com/2156/3224-2156682.pdf?src-supplier=Digi-Key; ComponentLink10Description: https://datasheet.ciiva.com/2156/3224-2156682.pdf?src-supplier=Digi-Key; ComponentLink11URL: https://datasheet.ciiva.com/2156/3224-2156683.pdf?src-supplier=Digi-Key; ComponentLink11Description: https://datasheet.ciiva.com/2156/3224-2156683.pdf?src-supplier=Digi-Key; ComponentLink12URL: https://datasheet.ciiva.com/2156/3224-2156681.pdf?src-supplier=Digi-Key; ComponentLink12Description: https://datasheet.ciiva.com/2156/3224-2156681.pdf?src-supplier=Digi-Key; ComponentLink13URL: https://datasheet.ciiva.com/30119/3224-30119614.pdf?src-supplier=Onlinecomponents.com; ComponentLink13Description: https://datasheet.ciiva.com/30119/3224-30119614.pdf?src-supplier=Onlinecomponents.com; ComponentLink14URL: https://datasheet.ciiva.com/1130/1598300-1130940.pdf?src-supplier=Element14; ComponentLink14Description: https://datasheet.ciiva.com/1130/1598300-1130940.pdf?src-supplier=Element14; ComponentLink15URL: https://datasheet.ciiva.com/16715/70153346-16715771.pdf?src-supplier=Allied+Electronics; ComponentLink15Description: https://datasheet.ciiva.com/16715/70153346-16715771.pdf?src-supplier=Allied+Electronics; ComponentLink16URL: https://datasheet.ciiva.com/48686/001054864-da-01-en-smd-trimmer-3224j-1-103e-10k-ohm-0-25w-48686887.pdf?src-supplier=Conrad; ComponentLink16Description: https://datasheet.ciiva.com/48686/001054864-da-01-en-smd-trimmer-3224j-1-103e-10k-ohm-0-25w-48686887.pdf?src-supplier=Conrad; Supplier Part Number 2: 2467586
footprint IC_DRV8825-HTSSOP28 (SOP, 28-Leads, Body 9.8x4.5mm, Pitch 0.65mm, Thermal Pad 5.18x3.1mm, IPC High Density)
pins: 1 CP1 "Charge pump flying capacitor", 2 CP2 "Charge pump flying capacitor", 3 VCP "High-side gate drive voltage", 4 VMA (power) "Bridge A power supply", 5 AOUT1 (hiz) "Bridge A output 1", 6 ISENA (in) "Bridge A ground / Isense", 7 AOUT2 (hiz) "Bridge A output 2", 8 BOUT2 (hiz) "Bridge B output 2", 9 ISENB (in) "Bridge B ground / Isense", 10 BOUT1 (hiz) "Bridge B output 1", 11 VMB (power) "Bridge B power supply", 12 AVREF (in) "Bridge A current set reference input", 13 BVREF (in) "Bridge B current set reference input", 14 GND (power) "Device ground", 15 V3P3OUT (power) "3.3-V regulator output", 16 ~{RESET} (in) "Reset input", 17 ~{SLEEP} (in) "Sleep mode input", 18 ~{FAULT} (oc) "Fault", 19 DECAY (in) "Decay mode", 20 DIR (in) "Direction input", 21 ~{ENBL} (in) "Bridge enable", 22 STEP (in) "Step input", 23 NC, 24 MODE0 (in) "Microstep mode 0", 25 MODE1 (in) "Microstep mode 1", 26 MODE2 (in) "Microstep mode 2", 27 ~{HOME} (oc) "Home position", 28 GND (power) "Device ground", 29 GND (power)

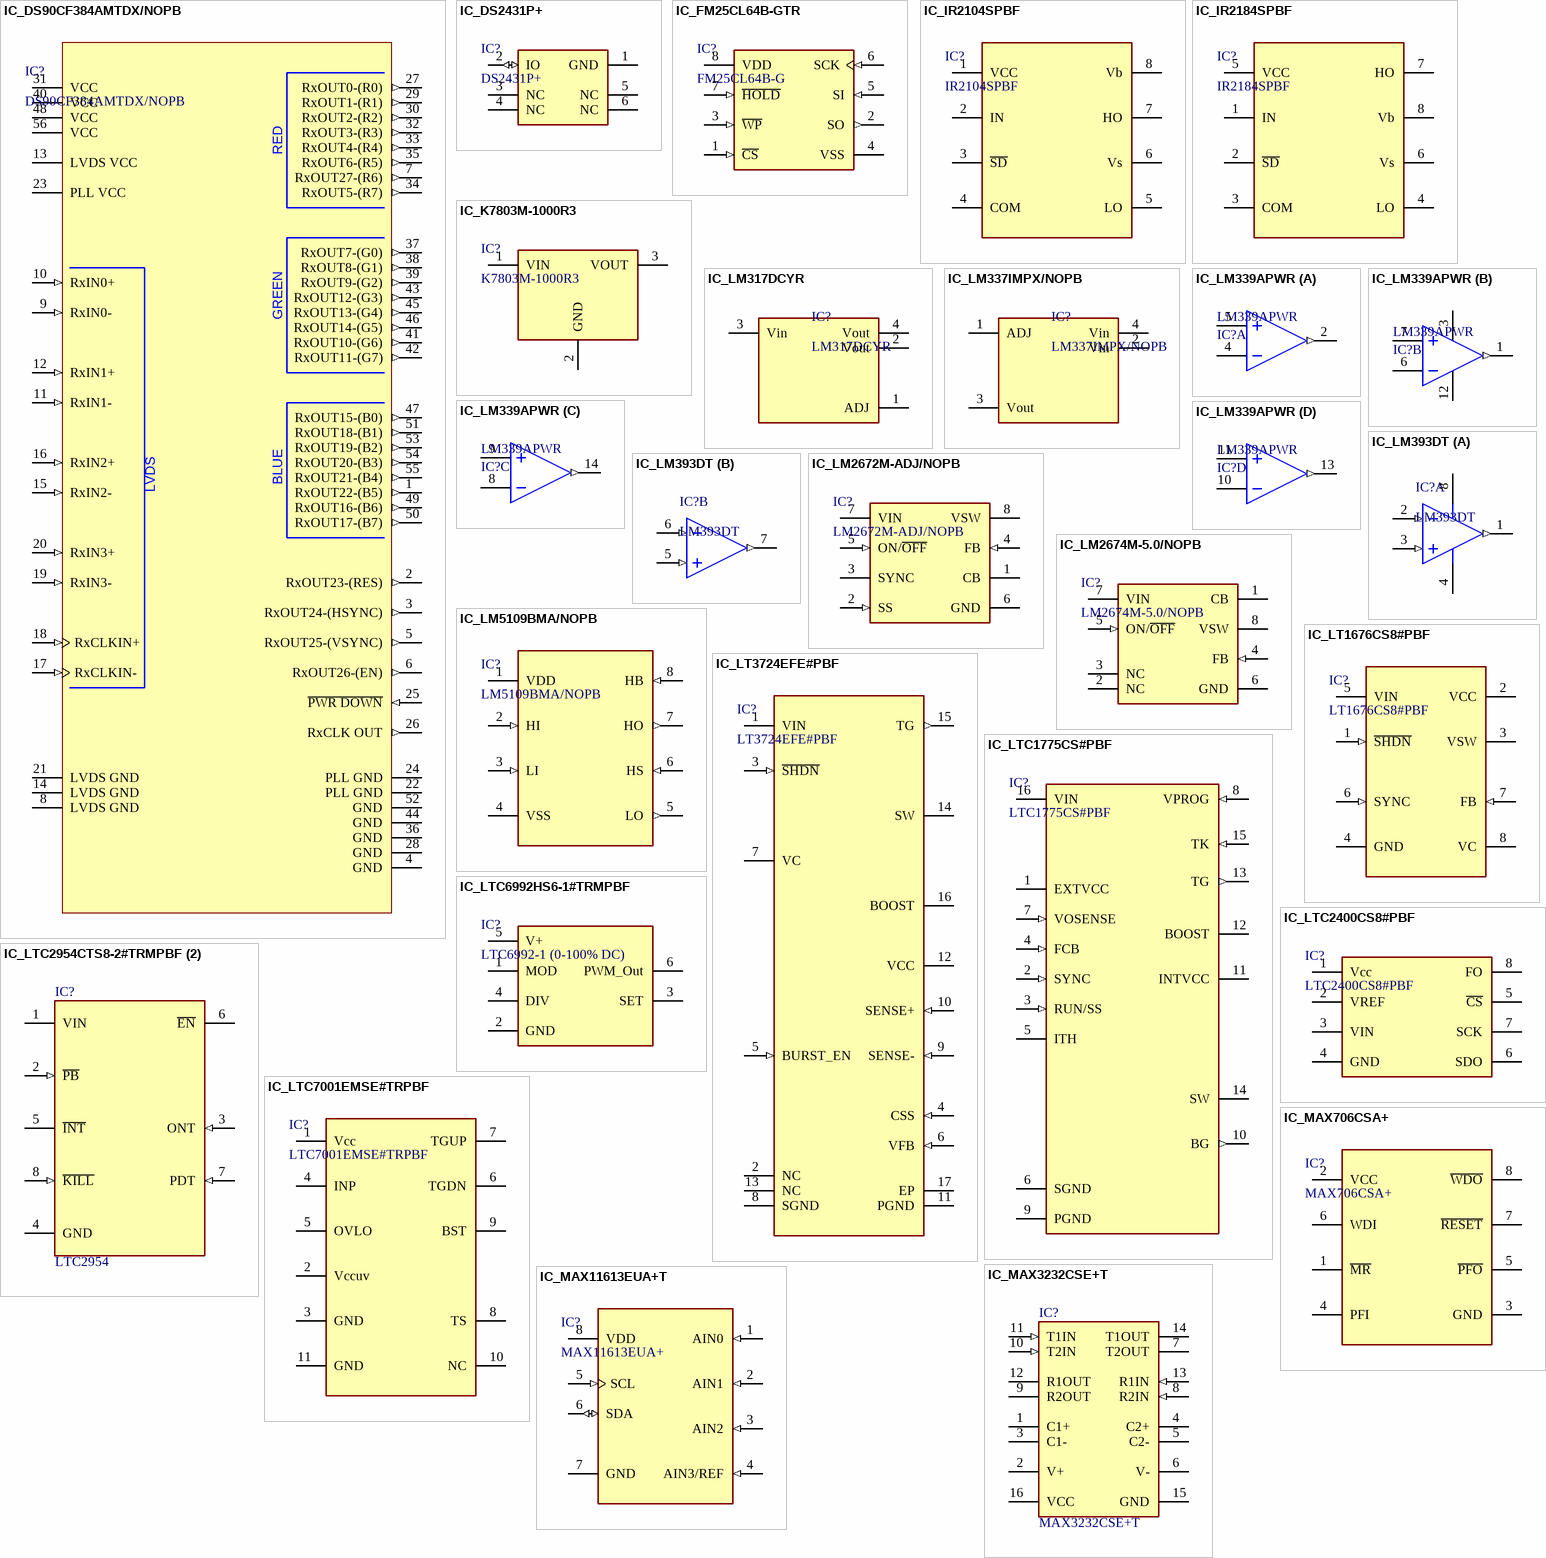
[diagram p10: symbols IC_DS90CF384AMTDX/NOPB to IC_MAX11613EUA+T]

## IC_DS90CF384AMTDX/NOPB
designator IC?, comment DS90CF384AMTDX/NOPB
+3.3V LVDS eceiver 24-Bit Flat Panel Display (FPD) Link - 65MHz 56-TSSOP -10 to 70; Manufacturer: TI National Semiconductor; Operating Supply Voltage: 3.3V; Number of Drivers: 28; Data Rate: 1800Mbps; Max Power Dissipation: 1.61W; Number of Receivers: 4; Max Supply Voltage: 3.6V; Min Supply Voltage: 3V; Max Input Current: 10uA; Logic Function: Receiver; Supplier 1: Mouser; Manufacturer Part Number: DS90CF384AMTDX/NOPB; RoHS: Yes; Category: Interface ICs; Stock 1: 56; Mount: Surface Mount; Case/Package: TSSOP; Number of Pins: 56; Contact Plating: Tin; Min Operating Temperature: -10°C; Max Operating Temperature: 70°C; Packaging: Tape and Reel; Package Quantity: 1000; Number of Elements: 4; Power Dissipation: 1.61W; Series: -; Radiation Hardening: No; Lead Free: Lead Free; RoHS Compliant: Yes; ComponentLink1URL: https://datasheet.ciiva.com/15133/getdatasheetpartid-89782-15133996.pdf?src-supplier=Verical; ComponentLink1Description: https://datasheet.ciiva.com/15133/getdatasheetpartid-89782-15133996.pdf?src-supplier=Verical; ComponentLink2URL: https://datasheet.ciiva.com/29642/ds90cf364a-29642076.pdf?src-supplier=Digi-Key; ComponentLink2Description: https://datasheet.ciiva.com/29642/ds90cf364a-29642076.pdf?src-supplier=Digi-Key; ComponentLink3URL: https://datasheet.ciiva.com/29642/ds90cf364a-29642077.pdf?src-supplier=Digi-Key; ComponentLink3Description: https://datasheet.ciiva.com/29642/ds90cf364a-29642077.pdf?src-supplier=Digi-Key; ComponentLink4URL: https://datasheet.ciiva.com/29642/ds90cf364a-29642078.pdf?src-supplier=Digi-Key; ComponentLink4Description: https://datasheet.ciiva.com/29642/ds90cf364a-29642078.pdf?src-supplier=Digi-Key; ComponentLink5URL: https://datasheet.ciiva.com/6635/ds90cf364a-6635055.pdf?src-supplier=Digi-Key; ComponentLink5Description: https://datasheet.ciiva.com/6635/ds90cf364a-6635055.pdf?src-supplier=Digi-Key; Supplier Part Number 1: 926-D90CF384AMTDXNPB
footprint TSSOP-56 (TSSOP, 56-Leads, Body 14x6.1mm, Pitch 0.5mm, IPC High Density)
pins: 1 RxOUT22-(B5) (out), 2 RxOUT23-(RES) (out), 3 RxOUT24-(HSYNC) (out), 4 GND (power), 5 RxOUT25-(VSYNC) (out), 6 RxOUT26-(EN) (out), 7 RxOUT27-(R6) (out), 8 LVDS GND (power), 9 RxIN0- (in), 10 RxIN0+ (in), 11 RxIN1- (in), 12 RxIN1+ (in), 13 LVDS VCC (power), 14 LVDS GND (power), 15 RxIN2- (in), 16 RxIN2+ (in), 17 RxCLKIN- (in), 18 RxCLKIN+ (in), 19 RxIN3- (in), 20 RxIN3+ (in), 21 LVDS GND (power), 22 PLL GND (power), 23 PLL VCC (power), 24 PLL GND (power), 25 ~{PWR DOWN} (in), 26 RxCLK OUT (out), 27 RxOUT0-(R0) (out), 28 GND (power), 29 RxOUT1-(R1) (out), 30 RxOUT2-(R2) (out), 31 VCC (power), 32 RxOUT3-(R3) (out), 33 RxOUT4-(R4) (out), 34 RxOUT5-(R7) (out), 35 RxOUT6-(R5) (out), 36 GND (power), 37 RxOUT7-(G0) (out), 38 RxOUT8-(G1) (out), 39 RxOUT9-(G2) (out), 40 VCC (power), 41 RxOUT10-(G6) (out), 42 RxOUT11-(G7) (out), 43 RxOUT12-(G3) (out), 44 GND (power), 45 RxOUT13-(G4) (out), 46 RxOUT14-(G5) (out), 47 RxOUT15-(B0) (out), 48 VCC (power), 49 RxOUT16-(B6) (out), 50 RxOUT17-(B7) (out), 51 RxOUT18-(B1) (out), 52 GND (power), 53 RxOUT19-(B2) (out), 54 RxOUT20-(B3) (out), 55 RxOUT21-(B4) (out), 56 VCC (power)
text: RED; GREEN; BLUE; LVDS

## IC_DS2431P+
designator IC?, comment DS2431P+
EEPROM 1024-Bit 1-Wire EEPROM; Manufacturer: Maxim; Density: 1Kb; Interface: Serial; Operating Supply Voltage: 5V; Max Supply Voltage: 5.25V; Min Supply Voltage: 2.8V; Memory Size: 1024b; Number of Words: 256; Supplier 1: Digi-Key; Manufacturer Part Number: DS2431P+; RoHS: Yes; Category: EEPROM; Stock 1: 9832; Pricing 1: 1=1,58000, 10=1,44300, 25=1,40400, 50=1,39680, 100=1,24860, 250=1,24488, 500=1,22636, 1000=1,17374, 5000=1,09298 (USD); Mount: Surface Mount; Number of Pins: 6; Contact Plating: Tin,Matte; Min Operating Temperature: -40°C; Max Operating Temperature: 85°C; Packaging: Rail/Tube; Package Quantity: 120; Memory Type: EEPROM; Length: 4mm; Height: 1.5mm; Width: 3.89mm; Radiation Hardening: No; REACH SVHC: No SVHC; Lead Free: Lead Free; ComponentLink1URL: https://datasheet.ciiva.com/1636/1520260-1636692.pdf?src-supplier=Newark; ComponentLink1Description: https://datasheet.ciiva.com/1636/1520260-1636692.pdf?src-supplier=Newark; ComponentLink2URL: https://datasheet.ciiva.com/7654/1718768-7654632.pdf?src-supplier=Element14; ComponentLink2Description: https://datasheet.ciiva.com/7654/1718768-7654632.pdf?src-supplier=Element14; ComponentLink3URL: https://datasheet.ciiva.com/26871/ds2431p-26871413.pdf?src-supplier=IIIC; ComponentLink3Description: https://datasheet.ciiva.com/26871/ds2431p-26871413.pdf?src-supplier=IIIC; ComponentLink4URL: https://datasheet.ciiva.com/16922/70127804-16922006.pdf?src-supplier=Allied+Electronics; ComponentLink4Description: https://datasheet.ciiva.com/16922/70127804-16922006.pdf?src-supplier=Allied+Electronics; ComponentLink5URL: https://datasheet.ciiva.com/16623/ds2431-16623226.pdf?src-supplier=Avnet+Europe; ComponentLink5Description: https://datasheet.ciiva.com/16623/ds2431-16623226.pdf?src-supplier=Avnet+Europe; ComponentLink6URL: https://datasheet.ciiva.com/1906/ds2431-1906891.pdf?src-supplier=Digi-Key; ComponentLink6Description: https://datasheet.ciiva.com/1906/ds2431-1906891.pdf?src-supplier=Digi-Key; Supplier Part Number 1: DS2431P+-ND
footprint DS2431P_TSOC6 (Small Outline; 6 C-Bend Leads; Body Width 3.8 mm; Pitch 1.27 mm, Maxim Recommended)
pins: 1 GND (power), 2 IO (io), 3 NC, 4 NC, 5 NC, 6 NC